# EAGLE library part ROV_MCU (library rov)
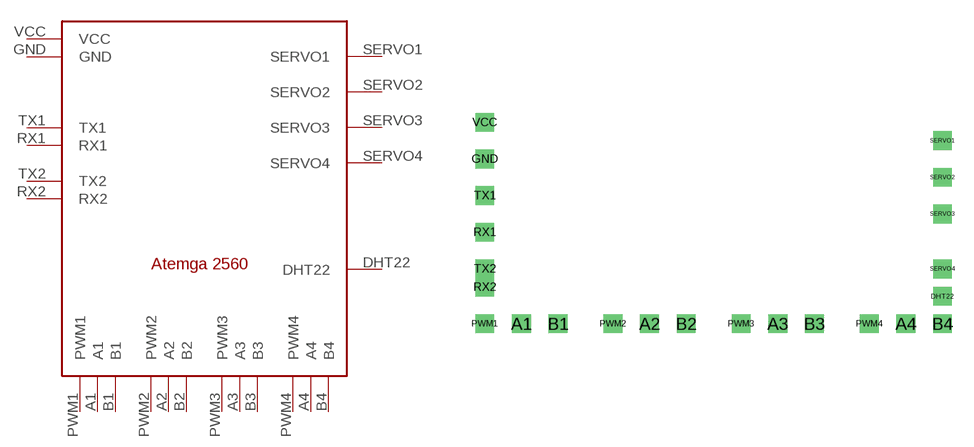
[diagram p1: symbol with the pads of ROV_MCU; footprint ROV_MCU]

Designator prefix -

## ROV_MCU  [ROV_MCU]
A1  A1
A2  A2
A3  A3
A4  A4
B1  B1
B2  B2
B3  B3
B4  B4
DHT22  DHT22
GND  GND
PWM1  PWM1
PWM2  PWM2
PWM3  PWM3
PWM4  PWM4
RX1  RX1
RX2  RX2
SERVO1  SERVO1
SERVO2  SERVO2
SERVO3  SERVO3
SERVO4  SERVO4
TX1  TX1
TX2  TX2
VCC  VCC

## Footprint ROV_MCU (pad centres in mm)
drill 0.8 square: A1 -5.08,-3.81; A2 3.81,-3.81; A3 12.7,-3.81; A4 21.59,-3.81; B1 -2.54,-3.81; B2 6.35,-3.81; B3 15.24,-3.81; B4 24.13,-3.81; DHT22 24.13,-1.905; GND -7.62,7.62; PWM1 -7.62,-3.81; PWM2 1.27,-3.81; PWM3 10.16,-3.81; PWM4 19.05,-3.81; RX1 -7.62,2.54; RX2 -7.62,-1.27; SERVO1 24.13,8.89; SERVO2 24.13,6.35; SERVO3 24.13,3.81; SERVO4 24.13,0; TX1 -7.62,5.08; TX2 -7.62,0; VCC -7.62,10.16